# Altium schematic symbol library Schematic Library.SchLib: 18 symbols
Pins are listed as number, name and electrical type; pins without a type are passive.

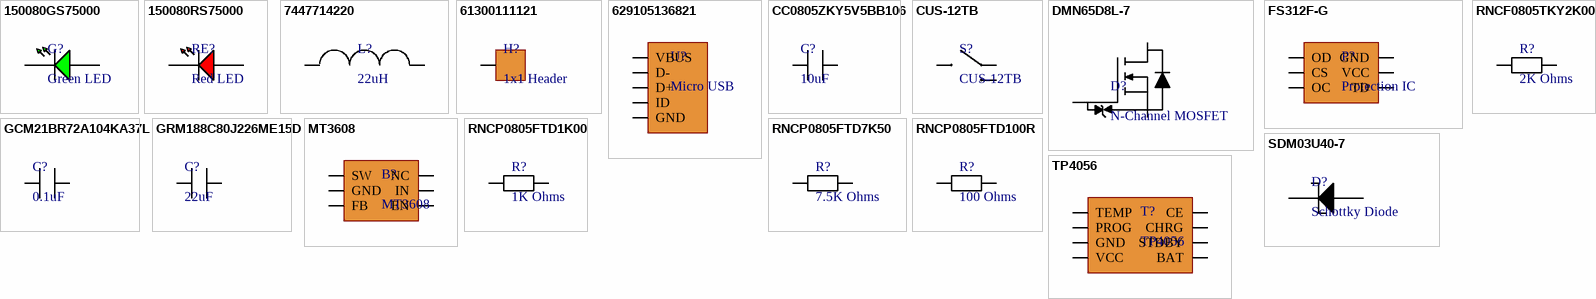
[diagram p0: symbols 150080GS75000 to TP4056]

## 150080GS75000
designator G?, comment Green LED
SMD LED green 3.5 V 0805, 150080GS75000, Würth Elektronik; Manufacturer: Wurth Electronics; Viewing Angle: 140°; Lens Style: Clear,Rectangular; Luminous Intensity: 450mcd; Forward Voltage: 3.2V; Wavelength: 520nm; Forward Current: 30mA; Test Current: 20mA; Supplier 1: Digi-Key; Manufacturer Part Number: 150080GS75000; RoHS: Yes; Category: LEDs; Stock 1: 23160; Pricing 1: 1=0.18000, 50=0.16500, 100=0.14200, 500=0.12300 (USD); Mount: Surface Mount; Case/Package: 0805; Color: Green; Case Code (Metric): 2012; Case Code (Imperial): 0805; Min Operating Temperature: -40°C; Max Operating Temperature: 85°C; Package Quantity: 4000; Packaging: Cut Tape; Dominant Wavelength: 520nm; Length: 2mm; Height: 0.7mm; Width: 1.25mm; REACH SVHC: Unknown; ComponentLink1URL: https://datasheet.ciiva.com/29563/150080gs75000-29563008.pdf?src-supplier=Digi-Key; ComponentLink1Description: https://datasheet.ciiva.com/29563/150080gs75000-29563008.pdf?src-supplier=Digi-Key; ComponentLink2URL: https://datasheet.ciiva.com/29279/759434-da-01-en-chipled-0805-w-kl-gruen-150080gs75000-29279039.pdf?src-supplier=Conrad; ComponentLink2Description: https://datasheet.ciiva.com/29279/759434-da-01-en-chipled-0805-w-kl-gruen-150080gs75000-29279039.pdf?src-supplier=Conrad; Supplier Part Number 1: 732-4983-1-ND
footprint Green LED
pins: 1, 2

## 150080RS75000
designator RE?, comment Red LED
SMD LED red 2.4 V 0805, 150080RS75000, Würth Elektronik; Manufacturer: Wurth Electronics; Luminous Intensity: 150mcd; Viewing Angle: 140°; Forward Voltage: 2V; Wavelength: 625nm; Lens Style: Clear,Rectangular; Forward Current: 30mA; Test Current: 20mA; Supplier 1: Digi-Key; Manufacturer Part Number: 150080RS75000; RoHS: Yes; Category: LEDs; Stock 1: 60927; Pricing 1: 1=0.18000, 50=0.16500, 100=0.14200, 500=0.12300 (USD); Mount: Surface Mount; Case/Package: 0805; Color: Red; Case Code (Metric): 2012; Case Code (Imperial): 0805; Min Operating Temperature: -40°C; Max Operating Temperature: 85°C; Package Quantity: 4000; Packaging: Tape and Reel; Dominant Wavelength: 625nm; Length: 2mm; Height: 0.7mm; Width: 1.25mm; REACH SVHC: Unknown; ComponentLink1URL: https://datasheet.ciiva.com/22656/150080rs75000-22656961.pdf?src-supplier=Element14; ComponentLink1Description: https://datasheet.ciiva.com/22656/150080rs75000-22656961.pdf?src-supplier=Element14; ComponentLink2URL: https://datasheet.ciiva.com/29279/759435-da-01-en-chipled-0805-w-kl-rot-150080rs75000-29279032.pdf?src-supplier=Conrad; ComponentLink2Description: https://datasheet.ciiva.com/29279/759435-da-01-en-chipled-0805-w-kl-rot-150080rs75000-29279032.pdf?src-supplier=Conrad; Supplier Part Number 1: 732-4984-1-ND
footprint Red LED
pins: 1, 2

## 7447714220
designator L?, comment 22uH
Ind Power Shielded Wirewound 22uH 20% 100KHz Ferrite 3A T/R; Manufacturer: Wurth Electronics; Manufacturer Part Number: 7447714220; Saturation Current: 3.6A; Self Resonant Frequency: 14.5MHz; Resistance: 50mR; Supplier 1: Digi-Key; RoHS: Yes; Category: Fixed Inductors; Stock 1: 7442; Pricing 1: 1=2.12000, 10=2.03800, 50=1.84000, 100=1.65000, 250=1.51000 (USD); Mount: Surface Mount; Case/Package: Nonstandard; Core Material: Ferrite; Min Operating Temperature: -40°C; Max Operating Temperature: 125°C; Package Quantity: 500; Packaging: Cut Tape; Current Rating: 3A; Tolerance: 20%; Shielding: Shielded; Inductance Tolerance: 20%; Inductance: 22uH; Composition: Wirewound; DC Resistance (DCR): 50mR; Test Frequency: 100kHz; Max DC Current: 3A; Termination: SMD/SMT; RMS Current (Irms): 3A; Series Resistance: 50mR; Length: 10mm; Height: 5mm; Width: 10mm; Height - Seated (Max): 0.197inch; Depth: 10mm; REACH SVHC: Unknown; ComponentLink1URL: https://datasheet.ciiva.com/1058/7447714220-1058608.pdf?src-supplier=Digi-Key; ComponentLink1Description: https://datasheet.ciiva.com/1058/7447714220-1058608.pdf?src-supplier=Digi-Key; ComponentLink2URL: https://datasheet.ciiva.com/30489/0900766b81281c0b-30489748.pdf?src-supplier=RSComponents; ComponentLink2Description: https://datasheet.ciiva.com/30489/0900766b81281c0b-30489748.pdf?src-supplier=RSComponents; ComponentLink3URL: https://datasheet.ciiva.com/13320/7447714220-70113-13320863.pdf?src-supplier=Mouser; ComponentLink3Description: https://datasheet.ciiva.com/13320/7447714220-70113-13320863.pdf?src-supplier=Mouser; ComponentLink4URL: https://datasheet.ciiva.com/1058/7447714220-1058609.pdf?src-supplier=Digi-Key; ComponentLink4Description: https://datasheet.ciiva.com/1058/7447714220-1058609.pdf?src-supplier=Digi-Key; ComponentLink5URL: https://datasheet.ciiva.com/7691/1736273-7691674.pdf?src-supplier=Element14; ComponentLink5Description: https://datasheet.ciiva.com/7691/1736273-7691674.pdf?src-supplier=Element14; ComponentLink6URL: https://datasheet.ciiva.com/48691/001087798-da-01-ml-we-pd-smd-speicherdrossel-74477142-de-en-48691509.pdf?src-supplier=Conrad; ComponentLink6Description: https://datasheet.ciiva.com/48691/001087798-da-01-ml-we-pd-smd-speicherdrossel-74477142-de-en-48691509.pdf?src-supplier=Conrad; Supplier Part Number 1: 732-2992-1-ND
footprint 22uH Inductor
pins: 1, 2

## 61300111121
designator H?, comment 1x1 Header
CONN HEADER VERT 1POS; Manufacturer: Wurth Electronics; Manufacturer Part Number: 61300111121; Number of Positions: 1; Gender: Male; Connector Type: Male Pin; Supplier 1: Digi-Key; RoHS: Yes; Category: Connectors; Stock 1: 9604; Pricing 1: 1=0.13000, 10=0.10600, 25=0.08800, 50=0.07400, 100=0.06700, 1000=0.06100 (USD); Mount: Through Hole; Contact Plating: Gold; Contact Material: Copper; Color: Black; Packaging: Bulk; Number of Rows: 1; Termination: Solder; Number of Contacts: 1; Contact Mating Length: 0.236inch; REACH SVHC: Unknown; ComponentLink1URL: http://www.farnell.com/cad/1737268.pdf?src-supplier=Element14; ComponentLink1Description: http://www.farnell.com/cad/1737268.pdf?src-supplier=Element14; ComponentLink2URL: https://katalog.we-online.de/em/datasheet/6130xx11121.pdf?src-supplier=Digi-Key; ComponentLink2Description: https://katalog.we-online.de/em/datasheet/6130xx11121.pdf?src-supplier=Digi-Key; Supplier Part Number 1: 732-5314-ND
footprint Header 1x1
pins: 1

## 629105136821
designator U?, comment Micro USB
WURTH ELEKTRONIK - 629105136821 - Connecteur USB, Micro USB Type B, USB 2.0, Embase, 5 Voies, Montage en surface, Coudée; Manufacturer: Wurth Electronics; Plating: Nickel; Current Rating: 1.8A; Gender: Receptacle; Voltage Rating: 30V; Number of Contacts: 5; Insulation Resistance: 1GR; Number of Ports: 1; USB Standard: USB 2.0; Supplier 1: Digi-Key; Manufacturer Part Number: 629105136821; RoHS: Yes; Category: Connectors; Stock 1: 8625; Pricing 1: 1=1.21000, 10=1.19200, 50=1.10700, 100=1.02100, 500=0.93600 (USD); Mount: Surface Mount,Horizontal; Contact Plating: Gold; Contact Material: Copper Alloy; Color: Black; Min Operating Temperature: -40°C; Max Operating Temperature: 105°C; Package Quantity: 1400; Packaging: Tape and Reel; Connector Type: USB; Number of Positions: 5; Termination: Solder; Orientation: Right Angle; Length: 5.9mm; Lead Free: Lead Free; REACH SVHC: Unknown; Flammability Rating: UL94 V-0; ComponentLink1URL: https://datasheet.ciiva.com/851/629105136821-851196.pdf?src-supplier=Digi-Key; ComponentLink1Description: https://datasheet.ciiva.com/851/629105136821-851196.pdf?src-supplier=Digi-Key; ComponentLink2URL: https://datasheet.ciiva.com/12494/629105136821-221118-12494781.pdf?src-supplier=Mouser; ComponentLink2Description: https://datasheet.ciiva.com/12494/629105136821-221118-12494781.pdf?src-supplier=Mouser; ComponentLink3URL: https://datasheet.ciiva.com/851/629105136821-851197.pdf?src-supplier=Digi-Key; ComponentLink3Description: https://datasheet.ciiva.com/851/629105136821-851197.pdf?src-supplier=Digi-Key; ComponentLink4URL: https://datasheet.ciiva.com/851/629105136821-851198.pdf?src-supplier=Digi-Key; ComponentLink4Description: https://datasheet.ciiva.com/851/629105136821-851198.pdf?src-supplier=Digi-Key; Supplier Part Number 1: 732-3155-1-ND
footprint Micro USB
pins: 1 VBUS, 2 D-, 3 D+, 4 ID, 5 GND

## CC0805ZKY5V5BB106
designator C?, comment 10uF
Cap Ceramic 10uF 6.3V Y5V -20% to 80% Pad SMD 0805 85C Automotive T/R; Manufacturer: Yageo; Manufacturer Part Number: CC0805ZKY5V5BB106; Supplier 1: Digi-Key; RoHS: Yes; Category: Ceramic Capacitors; Stock 1: 41988; Pricing 1: 1=0.18000, 10=0.12600, 50=0.07560, 100=0.06380, 500=0.04364, 1000=0.03861 (USD); Mount: Surface Mount; Case/Package: 0805; Number of Pins: 2; Case Code (Metric): 2012; Case Code (Imperial): 0805; Min Operating Temperature: -30°C; Max Operating Temperature: 85°C; Package Quantity: 1; Capacitance: 10uF; Voltage Rating: 6.3V; Tolerance: 80%; Packaging: Tape and Reel; Voltage Rating (DC): 6.3V; Dielectric: Y5V; Composition: Ceramic; Length: 2mm; Height: 1.25mm; Width: 0.049inch; Thickness: 0.057inch; Depth: 1.25mm; Radiation Hardening: No; Lead Free: Lead Free; Halogen Free: Halogen Free; ComponentLink1URL: https://datasheet.ciiva.com/180/mlccorderingcode-180353.pdf?src-supplier=Digi-Key; ComponentLink1Description: https://datasheet.ciiva.com/180/mlccorderingcode-180353.pdf?src-supplier=Digi-Key; ComponentLink2URL: https://datasheet.ciiva.com/180/mlccorderingcode-180354.pdf?src-supplier=Digi-Key; ComponentLink2Description: https://datasheet.ciiva.com/180/mlccorderingcode-180354.pdf?src-supplier=Digi-Key; ComponentLink3URL: https://datasheet.ciiva.com/180/mlccorderingcode-180355.pdf?src-supplier=Digi-Key; ComponentLink3Description: https://datasheet.ciiva.com/180/mlccorderingcode-180355.pdf?src-supplier=Digi-Key; ComponentLink4URL: https://datasheet.ciiva.com/11465/upy-gphc-y5v-6-3v-to-50v-5-11465830.pdf?src-supplier=Avnet; ComponentLink4Description: https://datasheet.ciiva.com/11465/upy-gphc-y5v-6-3v-to-50v-5-11465830.pdf?src-supplier=Avnet; ComponentLink5URL: https://datasheet.ciiva.com/17436/upy-gphc-y5v-6-3v-to-50v-5-17436535.pdf?src-supplier=Avnet+Europe; ComponentLink5Description: https://datasheet.ciiva.com/17436/upy-gphc-y5v-6-3v-to-50v-5-17436535.pdf?src-supplier=Avnet+Europe; ComponentLink6URL: https://datasheet.ciiva.com/13211/upy-gp-np0-16v-to-50v-8-13211102.pdf?src-supplier=Mouser; ComponentLink6Description: https://datasheet.ciiva.com/13211/upy-gp-np0-16v-to-50v-8-13211102.pdf?src-supplier=Mouser; Supplier Part Number 1: 311-1462-1-ND
footprint 10uF Capacitor
pins: 1, 2

## CUS-12TB
designator S?
SWITCH SLIDE SPDT 300MA 4V; Manufacturer: Nidec Copal; Actuator Material: Nylon,Polyamide; Switch Travel: 1.5mm; Contact Style: Non-Shorting; Electrical Life: 10000Cycles; Switch Function: On-On; Operating Force: 204gf; Max Voltage Rating (DC): 20V; Actuator Type: Standard; Supplier 1: Digi-Key; Manufacturer Part Number: CUS-12TB; RoHS: Yes; Category: Slide Switches; Stock 1: 15160; Pricing 1: 1=0.70000, 10=0.67000, 25=0.64400, 100=0.55890, 250=0.50996, 500=0.47390, 1000=0.42496 (USD); Mount: Surface Mount; Contact Material: Copper Alloy; Contact Plating: Gold; Min Operating Temperature: -20°C; Max Operating Temperature: 70°C; Termination: Gull Wing; Current Rating: 300mA; Packaging: Tape and Reel; Throw Configuration: SPDT; Voltage Rating (DC): 4V; Orientation: Right Angle; Actuator Length: 1.5mm; Radiation Hardening: No; ComponentLink1URL: https://datasheet.ciiva.com/2889/cus-2889431.pdf?src-supplier=Digi-Key; ComponentLink1Description: https://datasheet.ciiva.com/2889/cus-2889431.pdf?src-supplier=Digi-Key; ComponentLink2URL: https://datasheet.ciiva.com/2889/cus-2889432.pdf?src-supplier=Digi-Key; ComponentLink2Description: https://datasheet.ciiva.com/2889/cus-2889432.pdf?src-supplier=Digi-Key; ComponentLink3URL: https://datasheet.ciiva.com/2889/cus-2889433.pdf?src-supplier=Digi-Key; ComponentLink3Description: https://datasheet.ciiva.com/2889/cus-2889433.pdf?src-supplier=Digi-Key; Supplier Part Number 1: 563-1102-1-ND
footprint Slide Switch
pins: 1, 2, 3

## DMN65D8L-7
designator D?, comment N-Channel MOSFET
N-Channel Enhancement MOSFET SOT-23; Manufacturer: Diodes; Manufacturer Part Number: DMN65D8L-7; FET Type: 1 N-Channel; Number of Channels: 1; Rise Time: 2.8ns; Rds On Max: 3R; Input Capacitance: 22pF; Element Configuration: Single; Gate to Source Voltage (Vgs): 20V; Drain to Source Voltage (Vdss): 60V; Continuous Drain Current (ID): 310mA; Max Power Dissipation: 370mW; Drain to Source Resistance: 2R; Power Dissipation: 540mW; Turn-Off Delay Time: 12.6ns; Turn-On Delay Time: 2.7ns; Threshold Voltage: 2V; Supplier 1: Digi-Key; RoHS: Yes; Category: MOSFETs; Stock 1: 211297; Pricing 1: 1=0.17000, 10=0.15100, 25=0.14400, 100=0.06330, 250=0.06076, 500=0.04972, 1000=0.03453 (USD); Mount: Surface Mount; Case/Package: SOT-23; Number of Pins: 3; Weight: 0.000282oz; Min Operating Temperature: -55°C; Max Operating Temperature: 150°C; Packaging: Tape and Reel; Package Quantity: 1; Drain to Source Breakdown Voltage: 60V; Number of Elements: 1; Length: 3mm; Height: 1.1mm; Width: 1.4mm; Lead Free: Lead Free; REACH SVHC: No SVHC; ComponentLink1URL: https://datasheet.ciiva.com/6371/dmn65d8l-6371124.pdf?src-supplier=Digi-Key; ComponentLink1Description: https://datasheet.ciiva.com/6371/dmn65d8l-6371124.pdf?src-supplier=Digi-Key; ComponentLink2URL: https://datasheet.ciiva.com/13058/dmn65d8l-219098-13058455.pdf?src-supplier=Mouser; ComponentLink2Description: https://datasheet.ciiva.com/13058/dmn65d8l-219098-13058455.pdf?src-supplier=Mouser; ComponentLink3URL: https://datasheet.ciiva.com/6371/dmn65d8l-6371126.pdf?src-supplier=Digi-Key; ComponentLink3Description: https://datasheet.ciiva.com/6371/dmn65d8l-6371126.pdf?src-supplier=Digi-Key; ComponentLink4URL: https://datasheet.ciiva.com/6371/dmn65d8l-6371128.pdf?src-supplier=Digi-Key; ComponentLink4Description: https://datasheet.ciiva.com/6371/dmn65d8l-6371128.pdf?src-supplier=Digi-Key; Supplier Part Number 1: DMN65D8L-7DICT-ND
footprint MOSFET
pins: 1 G, 2 D, 3 S

## FS312F-G
designator P?, comment Protection IC
footprint Protection IC
pins: 1 OD, 2 CS, 3 OC, 4 TD, 5 VCC, 6 GND

## GCM21BR72A104KA37L
designator C?, comment 0.1uF
CAP CER 0.1UF 100V X7R 0805; Manufacturer: Murata; Manufacturer Part Number: GCM21BR72A104KA37L; Capacitance: 100nF; Tolerance: 10%; Supplier 1: Digi-Key; RoHS: Yes; Category: Ceramic Capacitors; Stock 1: 11397818; Pricing 1: 1=0.31000, 10=0.20900, 50=0.13940, 100=0.11850, 500=0.08366, 1000=0.07321 (USD); Mount: Surface Mount; Case/Package: 0805; Case Code (Metric): 2012; Case Code (Imperial): 0805; Min Operating Temperature: -55°C; Max Operating Temperature: 125°C; Package Quantity: 1; Packaging: Tape and Reel; Termination: SMD/SMT; Voltage Rating: 100V; Dielectric: X7R; Voltage Rating (DC): 100V; Voltage: 100V; Length: 2mm; Height: 1.25mm; Depth: 1.25mm; Width: 0.049inch; Thickness: 0.055inch; Ratings: AEC-Q200; Radiation Hardening: No; REACH SVHC: No SVHC; Lead Free: Lead Free; ComponentLink1URL: https://datasheet.ciiva.com/2989/product-2989248.pdf?src-supplier=Avnet; ComponentLink1Description: https://datasheet.ciiva.com/2989/product-2989248.pdf?src-supplier=Avnet; ComponentLink2URL: https://datasheet.ciiva.com/18183/getdatasheetpartid-248062-18183712.pdf?src-supplier=Verical; ComponentLink2Description: https://datasheet.ciiva.com/18183/getdatasheetpartid-248062-18183712.pdf?src-supplier=Verical; ComponentLink3URL: https://datasheet.ciiva.com/11786/0900766b80ef92d0-11786205.pdf?src-supplier=RSComponents; ComponentLink3Description: https://datasheet.ciiva.com/11786/0900766b80ef92d0-11786205.pdf?src-supplier=RSComponents; ComponentLink4URL: https://datasheet.ciiva.com/135/product-135646.pdf?src-supplier=Digi-Key; ComponentLink4Description: https://datasheet.ciiva.com/135/product-135646.pdf?src-supplier=Digi-Key; ComponentLink5URL: https://datasheet.ciiva.com/135/product-135647.pdf?src-supplier=Digi-Key; ComponentLink5Description: https://datasheet.ciiva.com/135/product-135647.pdf?src-supplier=Digi-Key; ComponentLink6URL: https://datasheet.ciiva.com/135/product-135648.pdf?src-supplier=Digi-Key; ComponentLink6Description: https://datasheet.ciiva.com/135/product-135648.pdf?src-supplier=Digi-Key; ComponentLink7URL: https://datasheet.ciiva.com/48671/product-48671358.pdf?src-supplier=Avnet; ComponentLink7Description: https://datasheet.ciiva.com/48671/product-48671358.pdf?src-supplier=Avnet; ComponentLink8URL: https://datasheet.ciiva.com/16449/product-16449295.pdf?src-supplier=Future+Electronics; ComponentLink8Description: https://datasheet.ciiva.com/16449/product-16449295.pdf?src-supplier=Future+Electronics; Supplier Part Number 1: 490-4789-1-ND
footprint 0.1uF Capacitor
pins: 1, 2

## GRM188C80J226ME15D
designator C?, comment 22uF
CAP CER 22UF 6.3V X6S 0603; Manufacturer: Murata; Manufacturer Part Number: GRM188C80J226ME15D; Tolerance: 20%; Supplier 1: Digi-Key; RoHS: Yes; Category: Ceramic Capacitors; Stock 1: 219534; Pricing 1: 1=0.32000, 10=0.21900, 50=0.14560, 100=0.12380, 500=0.08742, 1000=0.07648 (USD); Mount: Surface Mount; Case/Package: 0603; Weight: 0.000222oz; Case Code (Metric): 1608; Case Code (Imperial): 0603; Min Operating Temperature: -55°C; Max Operating Temperature: 105°C; Dielectric: X6S; Termination: SMD/SMT; Voltage Rating (DC): 6.3V; Package Quantity: 4000; Packaging: Tape and Reel; Voltage Rating: 6.3V; Capacitance: 22uF; Length: 0.063inch; Height: 0.8mm; Width: 0.8mm; Thickness: 0.039inch; Lead Free: Lead Free; ComponentLink1URL: http://www.mouser.com/ds/2/281/c02e-2905.pdf?src-supplier=Mouser; ComponentLink1Description: http://www.mouser.com/ds/2/281/c02e-2905.pdf?src-supplier=Mouser; ComponentLink2URL: http://search.murata.co.jp/Ceramy/image/img/A01X/partnumbering_e_01.pdf?src-supplier=Digi-Key; ComponentLink2Description: http://search.murata.co.jp/Ceramy/image/img/A01X/partnumbering_e_01.pdf?src-supplier=Digi-Key; ComponentLink3URL: http://search.murata.co.jp/Ceramy/image/img/A01X/G101/ENG/GRM188C80J226ME15-01.pdf?src-supplier=Digi-Key; ComponentLink3Description: http://search.murata.co.jp/Ceramy/image/img/A01X/G101/ENG/GRM188C80J226ME15-01.pdf?src-supplier=Digi-Key; Supplier Part Number 1: 490-10471-1-ND
footprint 22uF Capacitor
pins: 1, 2

## MT3608
designator B?
BOOST CONVERTER IC
footprint Boost Converter
pins: 1 SW, 2 GND, 3 FB, 4 EN, 5 IN, 6 NC

## RNCF0805TKY2K00
designator R?, comment 2K Ohms
RES SMD 2K OHM 0.01% 1/8W 0805; Manufacturer: Stackpole Electronics; Manufacturer Part Number: RNCF0805TKY2K00; Max Power Dissipation: 125mW; Temperature Coefficient: 5ppm/°C; Resistance: 2kR; Supplier 1: Digi-Key; RoHS: Yes; Category: Chip SMD Resistors; Stock 1: 3852; Pricing 1: 1=1.97000, 10=1.74900, 100=1.33560 (USD); Mount: Surface Mount; Case/Package: 0805; Case Code (Imperial): 0805; Case Code (Metric): 2012; Min Operating Temperature: -55°C; Max Operating Temperature: 155°C; Tolerance: 0.01%; Packaging: Tape and Reel; Composition: Thin Film; Number of Terminations: 2; Features: Moisture Resistant; Length: 0.079inch; Height: 0.026inch; Width: 0.049inch; ComponentLink1URL: https://www.seielect.com/Catalog/SEI-RNCF.pdf?src-supplier=Digi-Key; ComponentLink1Description: https://www.seielect.com/Catalog/SEI-RNCF.pdf?src-supplier=Digi-Key; ComponentLink2URL: https://www.seielect.com/catalog/SEI-Packaging.pdf?src-supplier=Digi-Key; ComponentLink2Description: https://www.seielect.com/catalog/SEI-Packaging.pdf?src-supplier=Digi-Key; Supplier Part Number 1: RNCF0805TKY2K00CT-ND
footprint 2K Resistor
pins: 1, 2

## RNCP0805FTD1K00
designator R?, comment 1K Ohms
RES 1K OHM 1% 1/4W 0805; Manufacturer: Stackpole Electronics; Manufacturer Part Number: RNCP0805FTD1K00; Max Power Dissipation: 250mW; Temperature Coefficient: 100ppm/°C; Resistance: 1kR; Supplier 1: Digi-Key; RoHS: Yes; Category: Chip SMD Resistors; Stock 1: 425201; Pricing 1: 1=0.10000, 10=0.06600, 100=0.02550, 1000=0.01120, 2500=0.00967 (USD); Mount: Surface Mount; Case/Package: 0805; Case Code (Metric): 2012; Case Code (Imperial): 0805; Min Operating Temperature: -55°C; Max Operating Temperature: 155°C; Features: Moisture Resistant,Anti-Sulfur; Composition: Thin Film; Number of Terminations: 2; Tolerance: 1%; Power Rating: 250mW; Packaging: Tape and Reel; Length: 0.079inch; Height: 0.024inch; Width: 0.049inch; Lead Free: Lead Free; ComponentLink1URL: http://www.seielect.com/Catalog/SEI-rncp.pdf?src-supplier=Future+Electronics; ComponentLink1Description: http://www.seielect.com/Catalog/SEI-rncp.pdf?src-supplier=Future+Electronics; ComponentLink2URL: https://www.seielect.com/catalog/SEI-Packaging.pdf?src-supplier=Digi-Key; ComponentLink2Description: https://www.seielect.com/catalog/SEI-Packaging.pdf?src-supplier=Digi-Key; ComponentLink3URL: https://www.seielect.com/Catalog/SEI-rncp.pdf?src-supplier=Digi-Key; ComponentLink3Description: https://www.seielect.com/Catalog/SEI-rncp.pdf?src-supplier=Digi-Key; Supplier Part Number 1: RNCP0805FTD1K00CT-ND
footprint 1K Resistor
pins: 1, 2

## RNCP0805FTD7K50
designator R?, comment 7.5K Ohms
RES SMD 7.5K OHM 1% 1/4W 0805; Manufacturer: Stackpole Electronics; Manufacturer Part Number: RNCP0805FTD7K50; Max Power Dissipation: 250mW; Temperature Coefficient: 100ppm/°C; Resistance: 7.5kR; Supplier 1: Digi-Key; RoHS: Yes; Category: Chip SMD Resistors; Stock 1: 16530; Pricing 1: 1=0.10000, 10=0.06900, 100=0.02640, 1000=0.01162, 2500=0.01003 (USD); Mount: Surface Mount; Case/Package: 0805; Case Code (Imperial): 0805; Case Code (Metric): 2012; Min Operating Temperature: -55°C; Max Operating Temperature: 155°C; Tolerance: 1%; Packaging: Tape and Reel; Composition: Thin Film; Number of Terminations: 2; Features: Moisture Resistant,Anti-Sulfur; Length: 0.079inch; Height: 0.024inch; Width: 0.049inch; ComponentLink1URL: http://www.seielect.com/Catalog/SEI-rncp.pdf?src-supplier=Digi-Key; ComponentLink1Description: http://www.seielect.com/Catalog/SEI-rncp.pdf?src-supplier=Digi-Key; ComponentLink2URL: https://www.seielect.com/catalog/SEI-Packaging.pdf?src-supplier=Digi-Key; ComponentLink2Description: https://www.seielect.com/catalog/SEI-Packaging.pdf?src-supplier=Digi-Key; Supplier Part Number 1: RNCP0805FTD7K50CT-ND
footprint 7.5K Resistor
pins: 1, 2

## RNCP0805FTD100R
designator R?, comment 100 Ohms
RES SMD 100 OHM 1% 1/4W 0805; Manufacturer: Stackpole Electronics; Manufacturer Part Number: RNCP0805FTD100R; Resistance: 100R; Max Power Dissipation: 250mW; Temperature Coefficient: 100ppm/°C; Supplier 1: Digi-Key; RoHS: Yes; Category: Chip SMD Resistors; Stock 1: 171227; Pricing 1: 1=0.10000, 10=0.06600, 100=0.02550, 1000=0.01120, 2500=0.00967 (USD); Mount: Surface Mount; Case/Package: 0805; Case Code (Imperial): 0805; Case Code (Metric): 2012; Min Operating Temperature: -55°C; Max Operating Temperature: 155°C; Composition: Thin Film; Number of Terminations: 2; Features: Moisture Resistant,Anti-Sulfur; Tolerance: 1%; Packaging: Tape and Reel; Length: 0.079inch; Height: 0.024inch; Width: 0.049inch; Lead Free: Lead Free; ComponentLink1URL: http://www.seielect.com/Catalog/SEI-rncp.pdf?src-supplier=Digi-Key; ComponentLink1Description: http://www.seielect.com/Catalog/SEI-rncp.pdf?src-supplier=Digi-Key; ComponentLink2URL: https://www.seielect.com/catalog/SEI-Packaging.pdf?src-supplier=Digi-Key; ComponentLink2Description: https://www.seielect.com/catalog/SEI-Packaging.pdf?src-supplier=Digi-Key; Supplier Part Number 1: RNCP0805FTD100RCT-ND
footprint 100 Ohms
pins: 1, 2

## SDM03U40-7
designator D?, comment Schottky Diode
Diode Schottky 40V 0.03A 2Pin SOD523; Manufacturer: Diodes; Manufacturer Part Number: SDM03U40-7; Max Power Dissipation: 150mW; Forward Current: 30mA; Peak Reverse Current: 500nA; Forward Voltage: 370mV; Peak Non-Repetitive Surge Current: 200mA; Element Configuration: Single; Polarity: Standard; Capacitance: 6pF; Max Reverse Voltage (DC): 30V; Supplier 1: Digi-Key; RoHS: Yes; Category: Rectifier Diodes; Stock 1: 40570; Pricing 1: 1=0.20000, 10=0.13600, 100=0.07270, 500=0.04166, 1000=0.03485 (USD); Mount: Surface Mount; Number of Pins: 2; Weight: 3.5E-05oz; Min Operating Temperature: -40°C; Max Operating Temperature: 125°C; Package Quantity: 3000; Packaging: Tape and Reel; Average Rectified Current: 30mA; Max Repetitive Reverse Voltage (Vrrm): 40V; Max Forward Surge Current (Ifsm): 200mA; Power Dissipation: 150mW; Termination: SMD/SMT; Voltage Rating (DC): 40V; Power Rating: 150mW; Current Rating: 30mA; Output Current: 30mA; Length: 1.3mm; Height: 0.65mm; Width: 0.9mm; Radiation Hardening: No; Lead Free: Lead Free; ComponentLink1URL: https://datasheet.ciiva.com/4715/ds30392-87516-4715617.pdf?src-supplier=Mouser; ComponentLink1Description: https://datasheet.ciiva.com/4715/ds30392-87516-4715617.pdf?src-supplier=Mouser; ComponentLink2URL: https://datasheet.ciiva.com/8301/ds30392-8301153.pdf?src-supplier=Avnet; ComponentLink2Description: https://datasheet.ciiva.com/8301/ds30392-8301153.pdf?src-supplier=Avnet; ComponentLink3URL: https://datasheet.ciiva.com/15144/getdatasheetpartid-38927-15144053.pdf?src-supplier=Verical; ComponentLink3Description: https://datasheet.ciiva.com/15144/getdatasheetpartid-38927-15144053.pdf?src-supplier=Verical; ComponentLink4URL: https://datasheet.ciiva.com/912/ds30392-912843.pdf?src-supplier=Digi-Key; ComponentLink4Description: https://datasheet.ciiva.com/912/ds30392-912843.pdf?src-supplier=Digi-Key; ComponentLink5URL: https://datasheet.ciiva.com/912/ds30392-912844.pdf?src-supplier=Digi-Key; ComponentLink5Description: https://datasheet.ciiva.com/912/ds30392-912844.pdf?src-supplier=Digi-Key; ComponentLink6URL: https://datasheet.ciiva.com/912/ds30392-912845.pdf?src-supplier=Digi-Key; ComponentLink6Description: https://datasheet.ciiva.com/912/ds30392-912845.pdf?src-supplier=Digi-Key; Supplier Part Number 1: SDM03U40DICT-ND
footprint Diode
pins: 1, 2

## TP4056
designator T?
Li-ION/LI-PO CHARGE IC
footprint TP4056
pins: 1 TEMP, 2 PROG, 3 GND, 4 VCC, 5 BAT, 6 STDBY, 7 CHRG, 8 CE